# EAGLE library part 610106249121 (library Fidget Spinner Example)
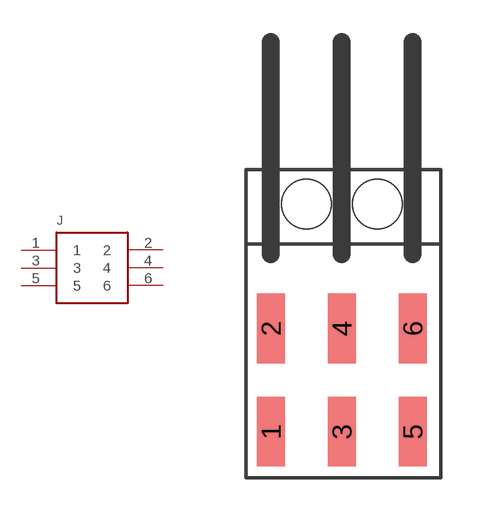
[diagram p2: symbol with the pads of RA-SMT-HDR-2X3; footprint RA-SMT-HDR-2X3]

Designator prefix J

## 610106249121  [RA-SMT-HDR-2X3]
1  1
2  2
3  3
4  4
5  5
6  6

## Footprint RA-SMT-HDR-2X3 (pad centres in mm)
smd 1 x 2.5: 1 0,0; 2 0,3.7; 3 2.54,0; 4 2.54,3.7; 5 5.08,0; 6 5.08,3.7
hole 1.78 at 1.27,8.15
hole 1.78 at 3.81,8.15